# Altium schematic symbol library TSW-103-05-G-S.SchLib: 1 symbol
Pins are listed as number, name and electrical type; pins without a type are passive.

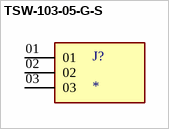
[diagram p0: symbol TSW-103-05-G-S]

## TSW-103-05-G-S
designator J?
MP: TSW-103-05-G-S; MF: {'manufacturer': u'Samtec Inc.'}; Price: None; Package: None; Value: *; Availability: Unavailable
footprint SAMTEC_TSW-103-05-G-S
pins: 01, 02, 03